# Altium footprint library P160KNPD4FC20B10K.PcbLib: 1 footprints
Each footprint in its own frame and in the unit in brackets; x right, y up, seen from the top. Pads: shape width x height; smd on the part's side, far side on the other; paste and mask are expansions set on the pad; w line width, h text height; cw(c..) or ccw(c..) is an arc to the next point about the centre after c.
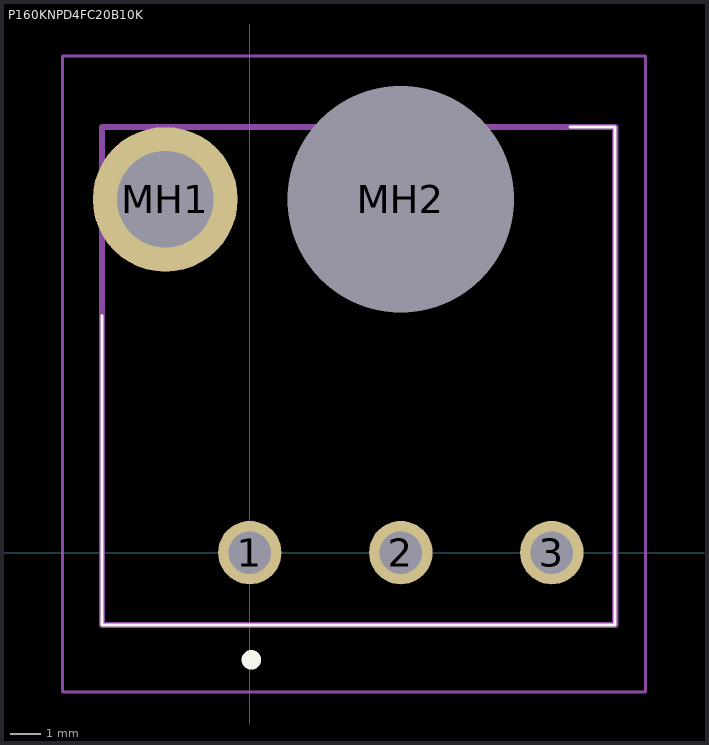
[diagram p0: the footprint, top view; thin cyan lines are the x and y axes]

## P160KNPD4FC20B10K [mm]
pads (5):
  round 2.1 hole 1.4: 1(0,0) 2(5,0) 3(10,0)
  round 4.8 hole 3.2: MH1(-2.8,11.7)
  round 3.75 hole 7.5 unplated: MH2(5,11.7)
Top Overlay:
  lines w0.1: -4.9,7.85 -4.9,-2.4 12.1,-2.4 12.1,14.1 10.6,14.1
  lines w0.5: 0,-3.5 0,-3.5 ; 0,-3.5 ccw(c0.05,-3.55) 0.1,-3.6 ; 0,-3.5 cw(c0.05,-3.55) 0.1,-3.6 ; 0.1,-3.6 0.1,-3.6
Mechanical 15:
  lines w0.2: -4.9,-2.4 12.1,-2.4 12.1,14.1 -4.9,14.1 -4.9,-2.4
Mechanical 20:
  lines w0.1: -6.2,-4.621 13.1,-4.621 13.1,16.45 -6.2,16.45 -6.2,-4.621